# EAGLE library part LPC11U14FET48 (library nxp_60_1_1)
32-bit ARM Cortex-M0 microcontroller; up to 32 kB flash; 6 kB SRAM; USB device; USART The LPC11U1x are an ARM Cortex-M0 based, low-cost 32-bit MCU family, designed for 8/16-bit microcontroller applications, offering performance, low power, simple instruction set and memory addressing together with reduced code size compared to existing 8/16-bit architectures. The LPC11U1x operate at CPU frequencies of up to 50 MHz. Equipped with a highly flexible and configurable Full Speed USB 2.0 device controller, the LPC11U1x brings unparalleled design flexibility and seamless integration to today’s demanding connectivity solutions. The peripheral complement of the LPC11U1x includes up to 32 kB of flash memory, 6 kB of SRAM data memory, one Fast-mode Plus I 2 C-bus interface, one RS-485/EIA-485 USART with support for synchronous mode and smart card interface, two SSP interfaces, four general purpose counter/timers, a 10-bit ADC, and up to 40 general purpose I/O pins. AAL Eindhoven MK
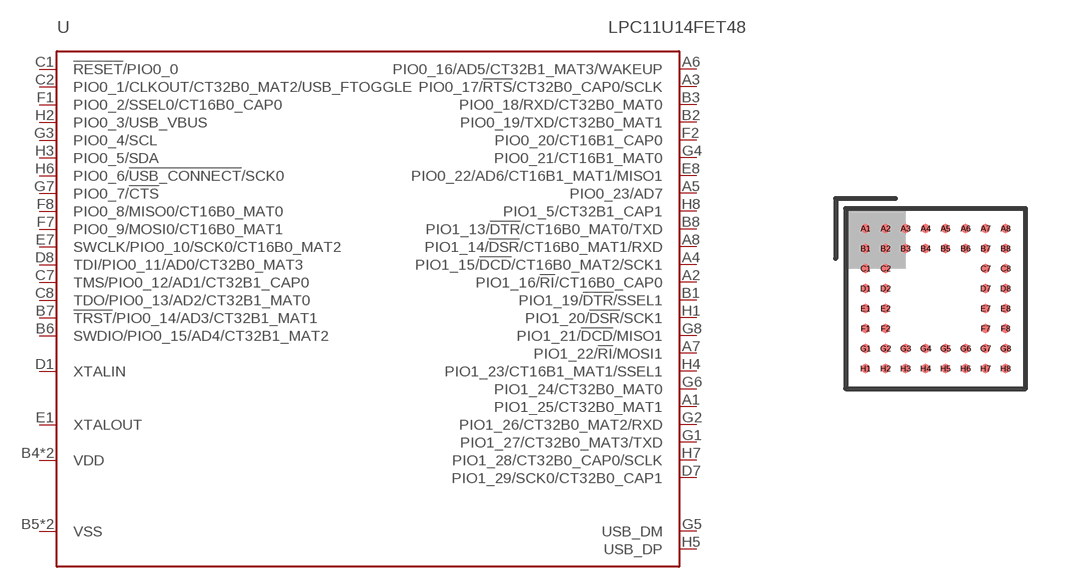
[diagram p183: symbol with the pads of SOT1155-2; footprint SOT1155-2]

Designator prefix U

## LPC11U14FET48/201 (FLASH: 32kB; GPIO: 40; SRAM: 6kB)  [SOT1155-2]
A1  PIO1_25/CT32B0_MAT1
A2  PIO1_16/!RI!/CT16B0_CAP0
A3  PIO0_17/!RTS!/CT32B0_CAP0/SCLK
A4  PIO1_15/!DCD!/CT16B0_MAT2/SCK1
A5  PIO0_23/AD7
A6  PIO0_16/AD5/CT32B1_MAT3/WAKEUP
A7  PIO1_22/!RI!/MOSI1
A8  PIO1_14/!DSR!/CT16B0_MAT1/RXD
B1  PIO1_19/!DTR!/SSEL1
B2  PIO0_19/TXD/CT32B0_MAT1
B3  PIO0_18/RXD/CT32B0_MAT0
B4  VDD  pwr
B5  VSS  pwr
B6  SWDIO/PIO0_15/AD4/CT32B1_MAT2
B7  !TRST!/PIO0_14/AD3/CT32B1_MAT1
B8  PIO1_13/!DTR!/CT16B0_MAT0/TXD
C1  !RESET!/PIO0_0
C2  PIO0_1/CLKOUT/CT32B0_MAT2/USB_FTOGGLE
C7  TMS/PIO0_12/AD1/CT32B1_CAP0
C8  TDO/PIO0_13/AD2/CT32B1_MAT0
D1  XTALIN  in
D2  VSS  pwr
D7  PIO1_29/SCK0/CT32B0_CAP1
D8  TDI/PIO0_11/AD0/CT32B0_MAT3
E1  XTALOUT  out
E2  VDD  pwr
E7  SWCLK/PIO0_10/SCK0/CT16B0_MAT2
E8  PIO0_22/AD6/CT16B1_MAT1/MISO1
F1  PIO0_2/SSEL0/CT16B0_CAP0
F2  PIO0_20/CT16B1_CAP0
F7  PIO0_9/MOSI0/CT16B0_MAT1
F8  PIO0_8/MISO0/CT16B0_MAT0
G1  PIO1_27/CT32B0_MAT3/TXD
G2  PIO1_26/CT32B0_MAT2/RXD
G3  PIO0_4/SCL
G4  PIO0_21/CT16B1_MAT0
G5  USB_DM
G6  PIO1_24/CT32B0_MAT0
G7  PIO0_7/!CTS!
G8  PIO1_21/!DCD!/MISO1
H1  PIO1_20/!DSR!/SCK1
H2  PIO0_3/USB_VBUS
H3  PIO0_5/SDA
H4  PIO1_23/CT16B1_MAT1/SSEL1
H5  USB_DP
H6  PIO0_6/!USB_CONNECT!/SCK0
H7  PIO1_28/CT32B0_CAP0/SCLK
H8  PIO1_5/CT32B1_CAP1

## Footprint SOT1155-2 (pad centres in mm)
SOT1155-2 TFBGA48: plastic thin fine-pitch ball grid array package; 48 balls; body 4.5 x 4.5 x 0.7 mm JEDEC: -- IEC: -- JEITA: --
smd 0.225 x 0.225: A1 -1.75,1.75; A2 -1.25,1.75; A3 -0.75,1.75; A4 -0.25,1.75; A5 0.25,1.75; A6 0.75,1.75; A7 1.25,1.75; A8 1.75,1.75; B1 -1.75,1.25; B2 -1.25,1.25; B3 -0.75,1.25; B4 -0.25,1.25; B5 0.25,1.25; B6 0.75,1.25; B7 1.25,1.25; B8 1.75,1.25; C1 -1.75,0.75; C2 -1.25,0.75; C7 1.25,0.75; C8 1.75,0.75; D1 -1.75,0.25; D2 -1.25,0.25; D7 1.25,0.25; D8 1.75,0.25; E1 -1.75,-0.25; E2 -1.25,-0.25; E7 1.25,-0.25; E8 1.75,-0.25; F1 -1.75,-0.75; F2 -1.25,-0.75; F7 1.25,-0.75; F8 1.75,-0.75; G1 -1.75,-1.25; G2 -1.25,-1.25; G3 -0.75,-1.25; G4 -0.25,-1.25; G5 0.25,-1.25; G6 0.75,-1.25; G7 1.25,-1.25; G8 1.75,-1.25; H1 -1.75,-1.75; H2 -1.25,-1.75; H3 -0.75,-1.75; H4 -0.25,-1.75; H5 0.25,-1.75; H6 0.75,-1.75; H7 1.25,-1.75; H8 1.75,-1.75